# Altium footprint library Components.PcbLib: 4 footprints
Each footprint in its own frame and in the unit in brackets; x right, y up, seen from the top. Pads: shape width x height; smd on the part's side, far side on the other; paste and mask are expansions set on the pad; w line width, h text height; cw(c..) or ccw(c..) is an arc to the next point about the centre after c.
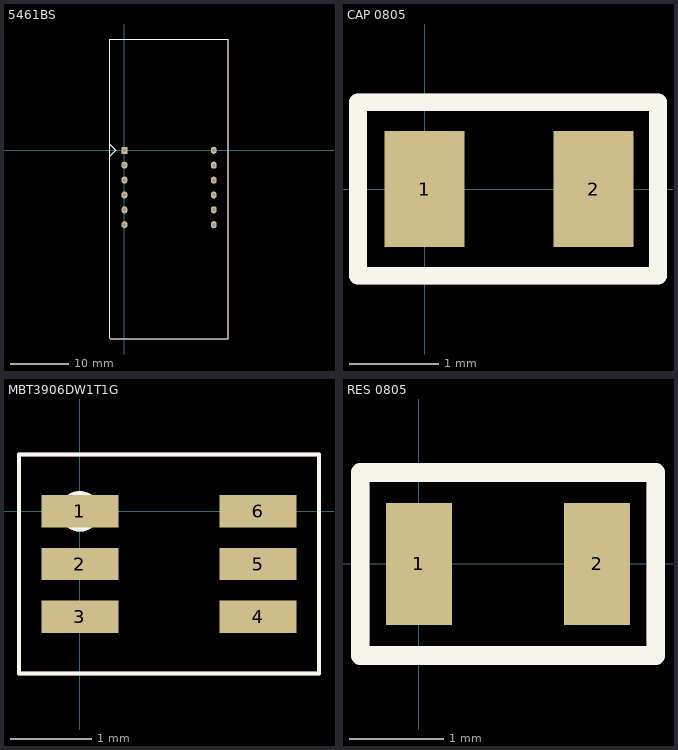
[diagram p0: the footprints below, top view; thin cyan lines are the x and y axes]

## 5461BS [mm] "7 Segments Display"
pads (12):
  rect 1x1.2 hole 0.6: 1(0,0)
  oval 1x1.2 hole 0.6: 2(0,-2.54) 3(0,-5.08) 4(0,-7.62) 5(0,-10.16) 6(0,-12.7) 7(15.24,-12.7) 8(15.24,-10.16) 9(15.24,-7.62) 10(15.24,-5.08) 11(15.24,-2.54) 12(15.24,0)
Top Overlay:
  lines w0.2: -2.5,-32.1 -2.5,19 17.7,19 17.7,-32.2 -2.4,-32.2 ; -2.5,-1 -1.5,0 -2.5,1
Mechanical 29:
  lines w0.2: -2.5,-32.1 -2.5,19 17.7,19 17.7,-32.2 -2.4,-32.2 ; -2.5,-1 -1.5,0 -2.5,1
  text "'.Designator'" at 18.4,18.8 h1.2
3D body "5461BS.step": height 8.01, standoff -6.3, extent -1.9,-31.75 17.1,18.55

## CAP 0805 [mm]
pads (2):
  rect 0.9x1.3 smd: 1(0,0) 2(1.9,0)
Top Overlay:
  lines w0.2: -0.75,-0.975 -0.75,0.975 2.625,0.975 2.625,-0.975 -0.75,-0.975
Mechanical 29:
  lines w0.2: -0.75,-0.975 2.625,-0.975 2.625,0.975 -0.75,0.975 -0.75,-0.975
  text "'.Designator'" at 0.325,-0.375 h1.2
3D body "CAP-0805.STEP": height 1.01, standoff 0.01, extent -0.05,-0.625 1.95,0.625

## MBT3906DW1T1G [mm] "SOT65P210X110-6N"
pads (6):
  rect 0.95x0.4 smd: 1(0,0) 2(0,-0.65) 3(0,-1.3) 4(2.2,-1.3) 5(2.2,-0.65) 6(2.2,0)
Top Overlay:
  circle w0.25: c0,0 r0.125
  lines w0.05: -0.75,-2 -0.75,0.7 2.95,0.7 2.95,-2 -0.75,-2
Mechanical 29:
  circle w0.25: c0,0 r0.125
  lines w0.05: -0.75,-2 2.95,-2 2.95,0.7 -0.75,0.7 -0.75,-2
  text "'.Designator'" at 0.5,-1.025 h1.2
3D body "NUP4202W1T2G.stp": height 1.1, standoff 0, extent 0.05,-1.65 2.15,0.35

## RES 0805 [mm]
pads (2):
  rect 0.7x1.3 smd: 1(0,0) 2(1.9,0)
Top Overlay:
  lines w0.2: -0.625,-0.975 -0.625,0.975 ; -0.625,-0.975 2.525,-0.975 -0.625,-0.975 ; -0.625,-0.975 -0.625,0.975 ; -0.625,0.975 2.525,0.975 -0.625,0.975 ; 2.525,-0.95 2.525,0.95 2.525,-0.95
Mechanical 29:
  lines w0.2: -0.625,-0.975 -0.625,0.975 ; -0.625,-0.975 2.525,-0.975 -0.625,-0.975 ; -0.625,-0.975 -0.625,0.975 ; -0.625,0.975 2.525,0.975 -0.625,0.975 ; 2.525,-0.95 2.525,0.95 2.525,-0.95
  text "'.Designator'" at 0.4,-0.35 h1.2
3D body "RES-0805.STEP": height 0.77, standoff 0.01, extent -0.2,-0.675 2.1,0.675